# Altium footprint library TEMP_SENS.PcbLib: 36 footprints (part 3 of 3)
Each footprint in its own frame and in the unit in brackets; x right, y up, seen from the top. Pads: shape width x height; smd on the part's side, far side on the other; paste and mask are expansions set on the pad; w line width, h text height; cw(c..) or ccw(c..) is an arc to the next point about the centre after c.
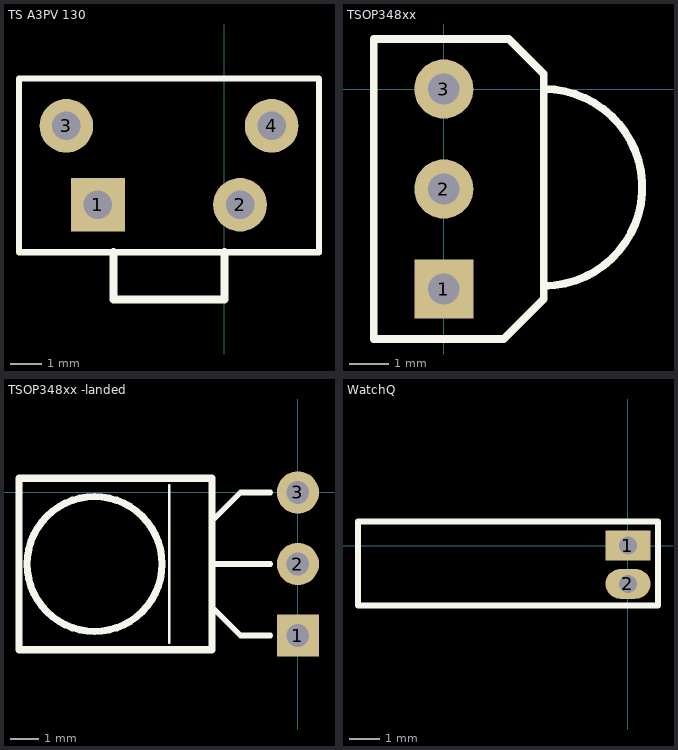
[diagram p2: the footprints below, top view; thin cyan lines are the x and y axes]

## TS A3PV 130 [mm] "Button"
height 10
pads (4):
  rect 1.7x1.7 hole 0.9: 1(-4,-7)
  round 1.7 hole 0.9: 2(0.5,-7) 3(-5,-4.5) 4(1.5,-4.5)
Top Overlay:
  lines w0.2: -6.5,-8.5 -6.5,-3 3,-3 3,-8.5 -6.5,-8.5
  lines w0.254: -3.5,-8.5 -3.5,-10 0,-10 0,-8.5

## TSOP348xx [mm]
pads (3):
  rect 1.5x1.5 hole 0.8: 1(0,-5.08)
  round 1.5 hole 0.8: 2(0,-2.54) 3(0,0)
Top Overlay:
  lines w0.2: 2.54,-5 ccw(c2.54,-2.5) 2.54,0 ; -1.778,-6.35 1.524,-6.35 2.54,-5.334 2.54,0.381 2.222,0.699 1.968,0.953 1.651,1.27 -1.778,1.27 -1.778,-6.35

## TSOP348xx -landed [mm]
pads (3):
  rect 1.5x1.5 hole 0.8: 1(0,-5.08)
  round 1.5 hole 0.8: 2(0,-2.54) 3(0,0)
Top Overlay:
  circle w0.254: c-7.222,-2.54 r2.396
  lines w0.1: -4.572,-5.334 -4.572,0.254
  lines w0.2: -3.048,-4.064 -2.032,-5.08 -0.976,-5.08 ; -3.048,-2.54 -0.976,-2.54 ; -3.048,-1.016 -2.032,0 -0.976,0
  lines w0.254: -9.906,-5.588 -9.906,0.508 -3.048,0.508 -3.048,-5.588 -9.906,-5.588

## WatchQ [mm] "Quartz"
height 5
pads (2):
  rect 1.5x1 hole 0.6: 1(0,0)
  oval 1.5x1 hole 0.6: 2(0,-1.27)
Top Overlay:
  lines w0.2: -9,-2 -9,0.8 1,0.8 1,-2 -9,-2